# Altium schematic symbol library ICs_Converters.SchLib: 17 symbols
Pins are listed as number, name and electrical type; pins without a type are passive.

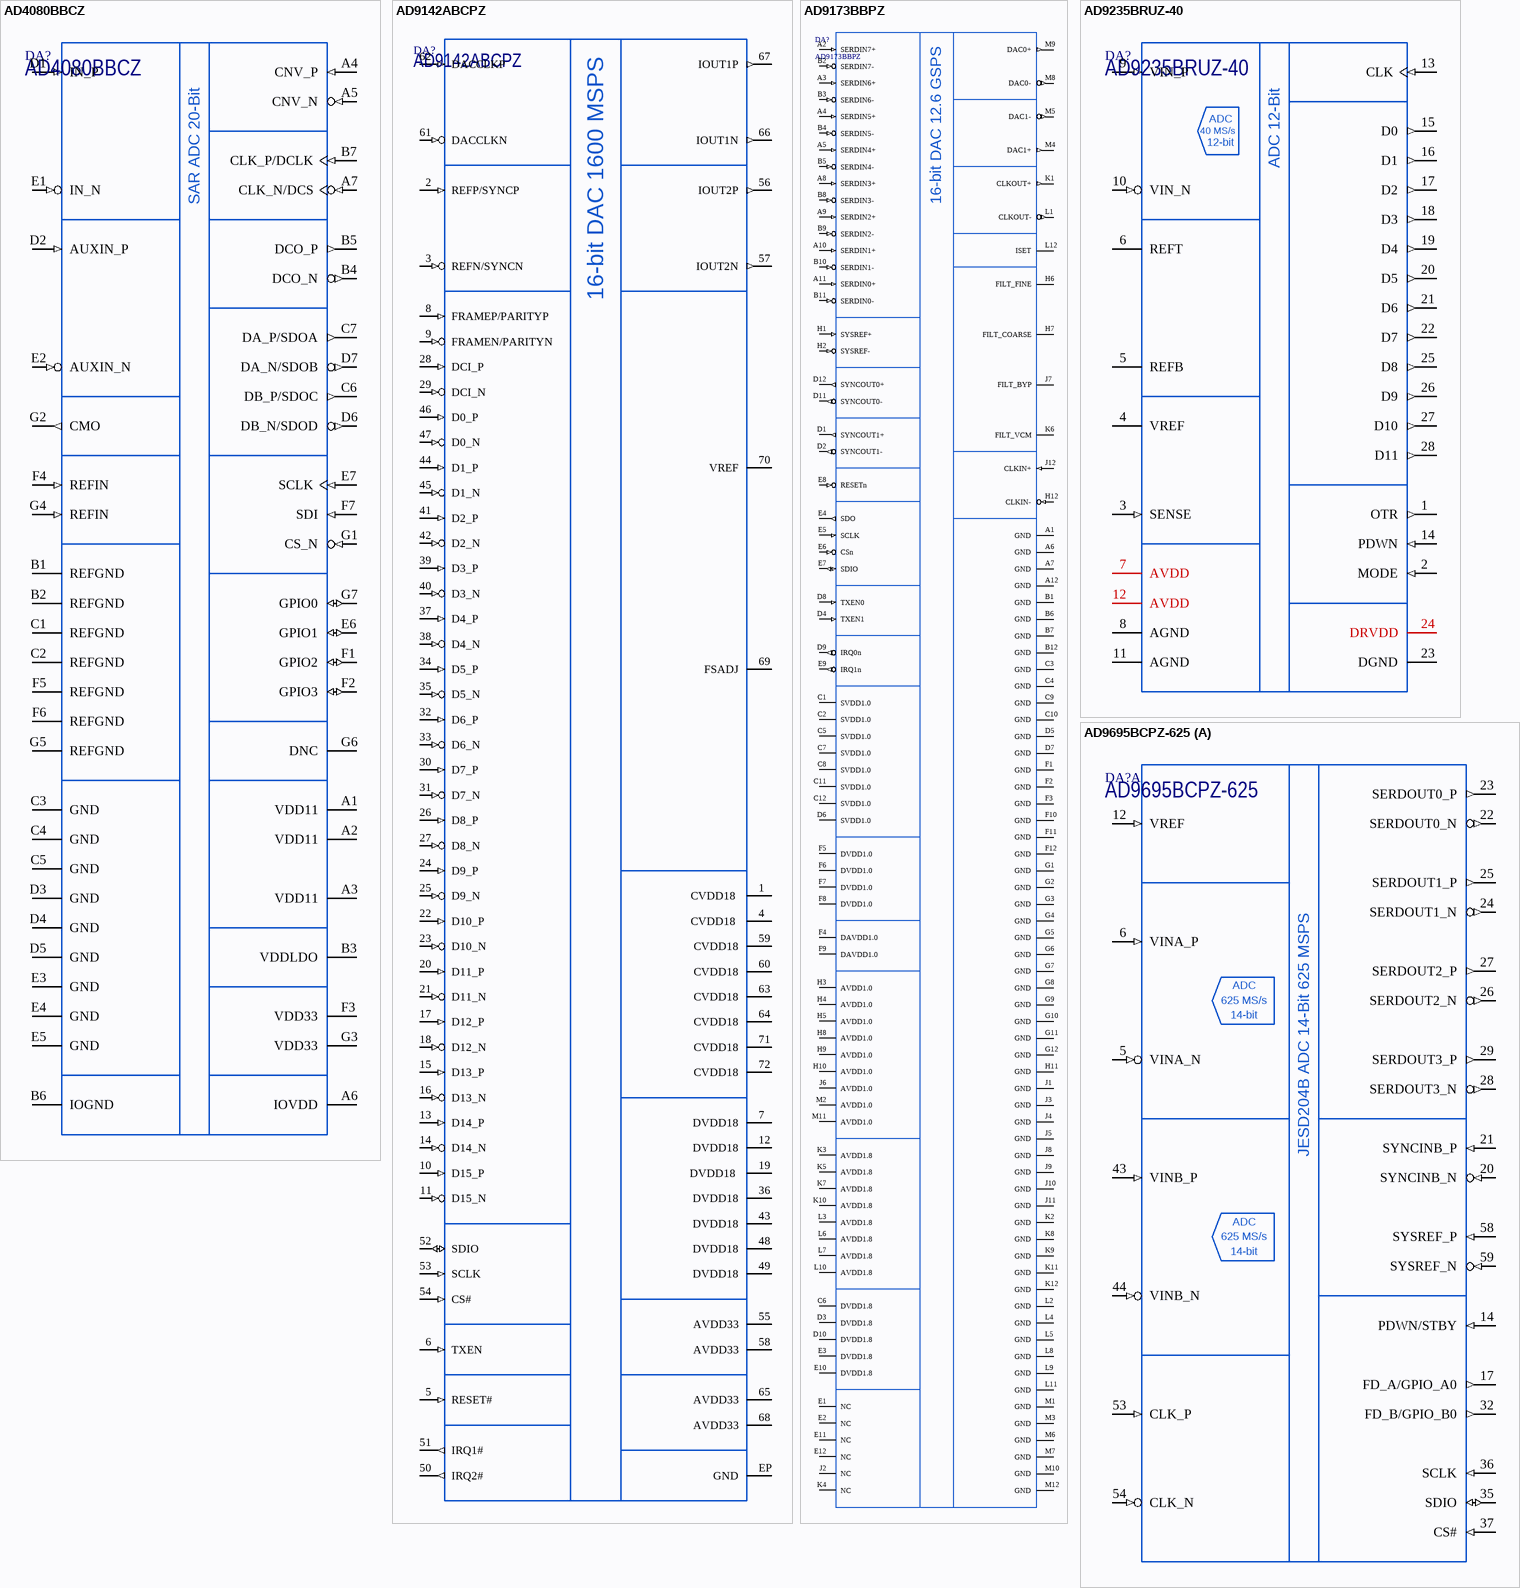
[diagram p0: symbols AD4080BBCZ to AD9695BCPZ-625]

## AD4080BBCZ
designator DA?
20-Bit, 40 MSPS, Differential SAR ADC; Manufacturer: Analog Devices; ItemType: IC; Package: BGA-49; PartNumber: AD4080BBCZ; ItemSubType: ADC; Mounting: SMD
footprint CSP_BGA49(BC-49-8) (BGA, 49-Leads, Body 5.00x5.00mmx1.38mm, Pitch 0.65mm)
pins: A1 VDD11 (power), A2 VDD11 (power), A3 VDD11 (power), A4 CNV_P (in), A5 CNV_N (in), A6 IOVDD (power), A7 CLK_N/DCS (in), B1 REFGND, B2 REFGND, B3 VDDLDO (power), B4 DCO_N (out), B5 DCO_P (out), B6 IOGND, B7 CLK_P/DCLK (in), C1 REFGND, C2 REFGND, C3 GND, C4 GND, C5 GND, C6 DB_P/SDOC (out), C7 DA_P/SDOA (out), D1 IN_P (in), D2 AUXIN_P (in), D3 GND, D4 GND, D5 GND, D6 DB_N/SDOD (out), D7 DA_N/SDOB (out), E1 IN_N (in), E2 AUXIN_N (in), E3 GND, E4 GND, E5 GND, E6 GPIO1 (io), E7 SCLK (in), F1 GPIO2 (io), F2 GPIO3 (io), F3 VDD33 (power), F4 REFIN (in), F5 REFGND, F6 REFGND, F7 SDI (in), G1 CS_N (in), G2 CMO (out), G3 VDD33 (power), G4 REFIN (in), G5 REFGND, G6 DNC (hiz), G7 GPIO0 (io)
text: SAR ADC 20-Bit

## AD9142ABCPZ
designator DA?
Dual, 16-Bit, 1600 MSPS, DAC; Manufacturer: Analog Devices; ItemType: IC; Package: LFCSP-72; PartNumber: AD9142ABCPZ; ItemSubType: DAC; Mounting: SMD
footprint LFCSP-72 (CP-72-7) (LFCSP, 72-Leads, Body 10x10mm, Pitch 0.50mm, Thermal Pad 5.30x5.30mm. Compliant to JEDEC standards MO-220-VNND-4)
pins: 1 CVDD18  (power), 2 REFP/SYNCP (in), 3 REFN/SYNCN  (in), 4 CVDD18  (power), 5 RESET# (in), 6 TXEN (in), 7 DVDD18 (power), 8 FRAMEP/PARITYP (in), 9 FRAMEN/PARITYN (in), 10 D15_P (in), 11 D15_N (in), 12 DVDD18 (power), 13 D14_P (in), 14 D14_N (in), 15 D13_P (in), 16 D13_N (in), 17 D12_P (in), 18 D12_N (in), 19 DVDD18  (power), 20 D11_P (in), 21 D11_N (in), 22 D10_P (in), 23 D10_N (in), 24 D9_P (in), 25 D9_N (in), 26 D8_P (in), 27 D8_N (in), 28 DCI_P (in), 29 DCI_N (in), 30 D7_P (in), 31 D7_N (in), 32 D6_P (in), 33 D6_N (in), 34 D5_P (in), 35 D5_N (in), 36 DVDD18 (power), 37 D4_P (in), 38 D4_N (in), 39 D3_P (in), 40 D3_N (in), 41 D2_P (in), 42 D2_N (in), 43 DVDD18 (power), 44 D1_P (in), 45 D1_N (in), 46 D0_P (in), 47 D0_N (in), 48 DVDD18 (power), 49 DVDD18 (power), 50 IRQ2# (out), 51 IRQ1# (out), 52 SDIO (io), 53 SCLK (in), 54 CS# (in), 55 AVDD33 (power), 56 IOUT2P (out), 57 IOUT2N (out), 58 AVDD33 (power), 59 CVDD18 (power), 60 CVDD18 (power), 61 DACCLKN (in), 62 DACCLKP (in), 63 CVDD18 (power), 64 CVDD18 (power), 65 AVDD33 (power), 66 IOUT1N (out), 67 IOUT1P (out), 68 AVDD33 (power), 69 FSADJ, 70 VREF, 71 CVDD18 (power), 72 CVDD18 (power), EP GND (power)
text: 16-bit DAC 1600 MSPS

## AD9173BBPZ
designator DA?
Dual 16-Bit 12.6 GSPS RF DAC with Channelizers; Manufacturer: Analog Devices; ItemType: IC; Package: BGA-144ED; PartNumber: AD9173BBPZ; ItemSubType: DAC; Mounting: SMD
footprint BGA144ED_AD9173 (BGA, 144-Leads, Body 10,00x10,00mmx1,71mm, Pitch 0,80mm (package option from Analog Devices BP-144-1))
pins: A1 GND (power), A2 SERDIN7+ (in), A3 SERDIN6+ (in), A4 SERDIN5+ (in), A5 SERDIN4+ (in), A6 GND (power), A7 GND (power), A8 SERDIN3+ (in), A9 SERDIN2+ (in), A10 SERDIN1+ (in), A11 SERDIN0+ (in), A12 GND (power), B1 GND (power), B2 SERDIN7- (in), B3 SERDIN6- (in), B4 SERDIN5- (in), B5 SERDIN4- (in), B6 GND (power), B7 GND (power), B8 SERDIN3- (in), B9 SERDIN2- (in), B10 SERDIN1- (in), B11 SERDIN0- (in), B12 GND (power), C1 SVDD1.0 (power), C2 SVDD1.0 (power), C3 GND (power), C4 GND (power), C5 SVDD1.0 (power), C6 DVDD1.8 (power), C7 SVDD1.0 (power), C8 SVDD1.0 (power), C9 GND (power), C10 GND (power), C11 SVDD1.0 (power), C12 SVDD1.0 (power), D1 SYNCOUT1+ (out), D2 SYNCOUT1- (out), D3 DVDD1.8 (power), D4 TXEN1 (in), D5 GND (power), D6 SVDD1.0 (power), D7 GND (power), D8 TXEN0 (in), D9 IRQ0n (out), D10 DVDD1.8 (power), D11 SYNCOUT0- (out), D12 SYNCOUT0+ (out), E1 NC (hiz), E2 NC (hiz), E3 DVDD1.8 (power), E4 SDO (out), E5 SCLK (in), E6 CSn (in), E7 SDIO (io), E8 RESETn (in), E9 IRQ1n (out), E10 DVDD1.8 (power), E11 NC (hiz), E12 NC (hiz), F1 GND (power), F2 GND (power), F3 GND (power), F4 DAVDD1.0 (power), F5 DVDD1.0 (power), F6 DVDD1.0 (power), F7 DVDD1.0 (power), F8 DVDD1.0 (power), F9 DAVDD1.0 (power), F10 GND (power), F11 GND (power), F12 GND (power), G1 GND (power), G2 GND (power), G3 GND (power), G4 GND (power), G5 GND (power), G6 GND (power), G7 GND (power), G8 GND (power), G9 GND (power), G10 GND (power), G11 GND (power), G12 GND (power), H1 SYSREF+ (in), H2 SYSREF- (in), H3 AVDD1.0 (power), H4 AVDD1.0 (power), H5 AVDD1.0 (power), H6 FILT_FINE, H7 FILT_COARSE, H8 AVDD1.0 (power), H9 AVDD1.0 (power), H10 AVDD1.0 (power), H11 GND (power), H12 CLKIN- (in), J1 GND (power), J2 NC (hiz), J3 GND (power), J4 GND (power), J5 GND (power), J6 AVDD1.0 (power), J7 FILT_BYP, J8 GND (power), J9 GND (power), J10 GND (power), J11 GND (power), J12 CLKIN+ (in), K1 CLKOUT+ (out), K2 GND (power), K3 AVDD1.8 (power), K4 NC (hiz), K5 AVDD1.8 (power), K6 FILT_VCM, K7 AVDD1.8 (power), K8 GND (power), K9 GND (power), K10 AVDD1.8 (power), K11 GND (power), K12 GND (power), L1 CLKOUT- (out), L2 GND (power), L3 AVDD1.8 (power), L4 GND (power), L5 GND (power), L6 AVDD1.8 (power), L7 AVDD1.8 (power), L8 GND (power), L9 GND (power), L10 AVDD1.8 (power), L11 GND (power), L12 ISET, M1 GND (power), M2 AVDD1.0 (power), M3 GND (power), M4 DAC1+ (out), M5 DAC1- (out), M6 GND (power), M7 GND (power), M8 DAC0- (out), M9 DAC0+ (out), M10 GND (power), M11 AVDD1.0 (power), M12 GND (power)
text: 16-bit DAC 12.6 GSPS

## AD9235BRUZ-40
designator DA?
12-Bit, 40 MSPS A/D Converter; Manufacturer: Analog Devices; ItemType: IC; ItemSubType: ADC; Alternative1: AD9235BRU-40; Package: TSSOP-28; PartNumber: AD9235BRUZ-40; AltManufacturer1: Analog Devices; Mounting: SMD
footprint TSSOP28_RU-28 (TSSOP, 28-Leads, Pitch 0.65mm. Analog Devices case style RU-28)
pins: 1 OTR (out), 2 MODE (in), 3 SENSE (in), 4 VREF, 5 REFB, 6 REFT, 7 AVDD (power), 8 AGND (power), 9 VIN_P (in), 10 VIN_N (in), 11 AGND (power), 12 AVDD (power), 13 CLK (in), 14 PDWN (in), 15 D0 (out), 16 D1 (out), 17 D2 (out), 18 D3 (out), 19 D4 (out), 20 D5 (out), 21 D6 (out), 22 D7 (out), 23 DGND (power), 24 DRVDD (power), 25 D8 (out), 26 D9 (out), 27 D10 (out), 28 D11 (out)
text: ADC 12-Bit; 40 MS/s; 12-bit

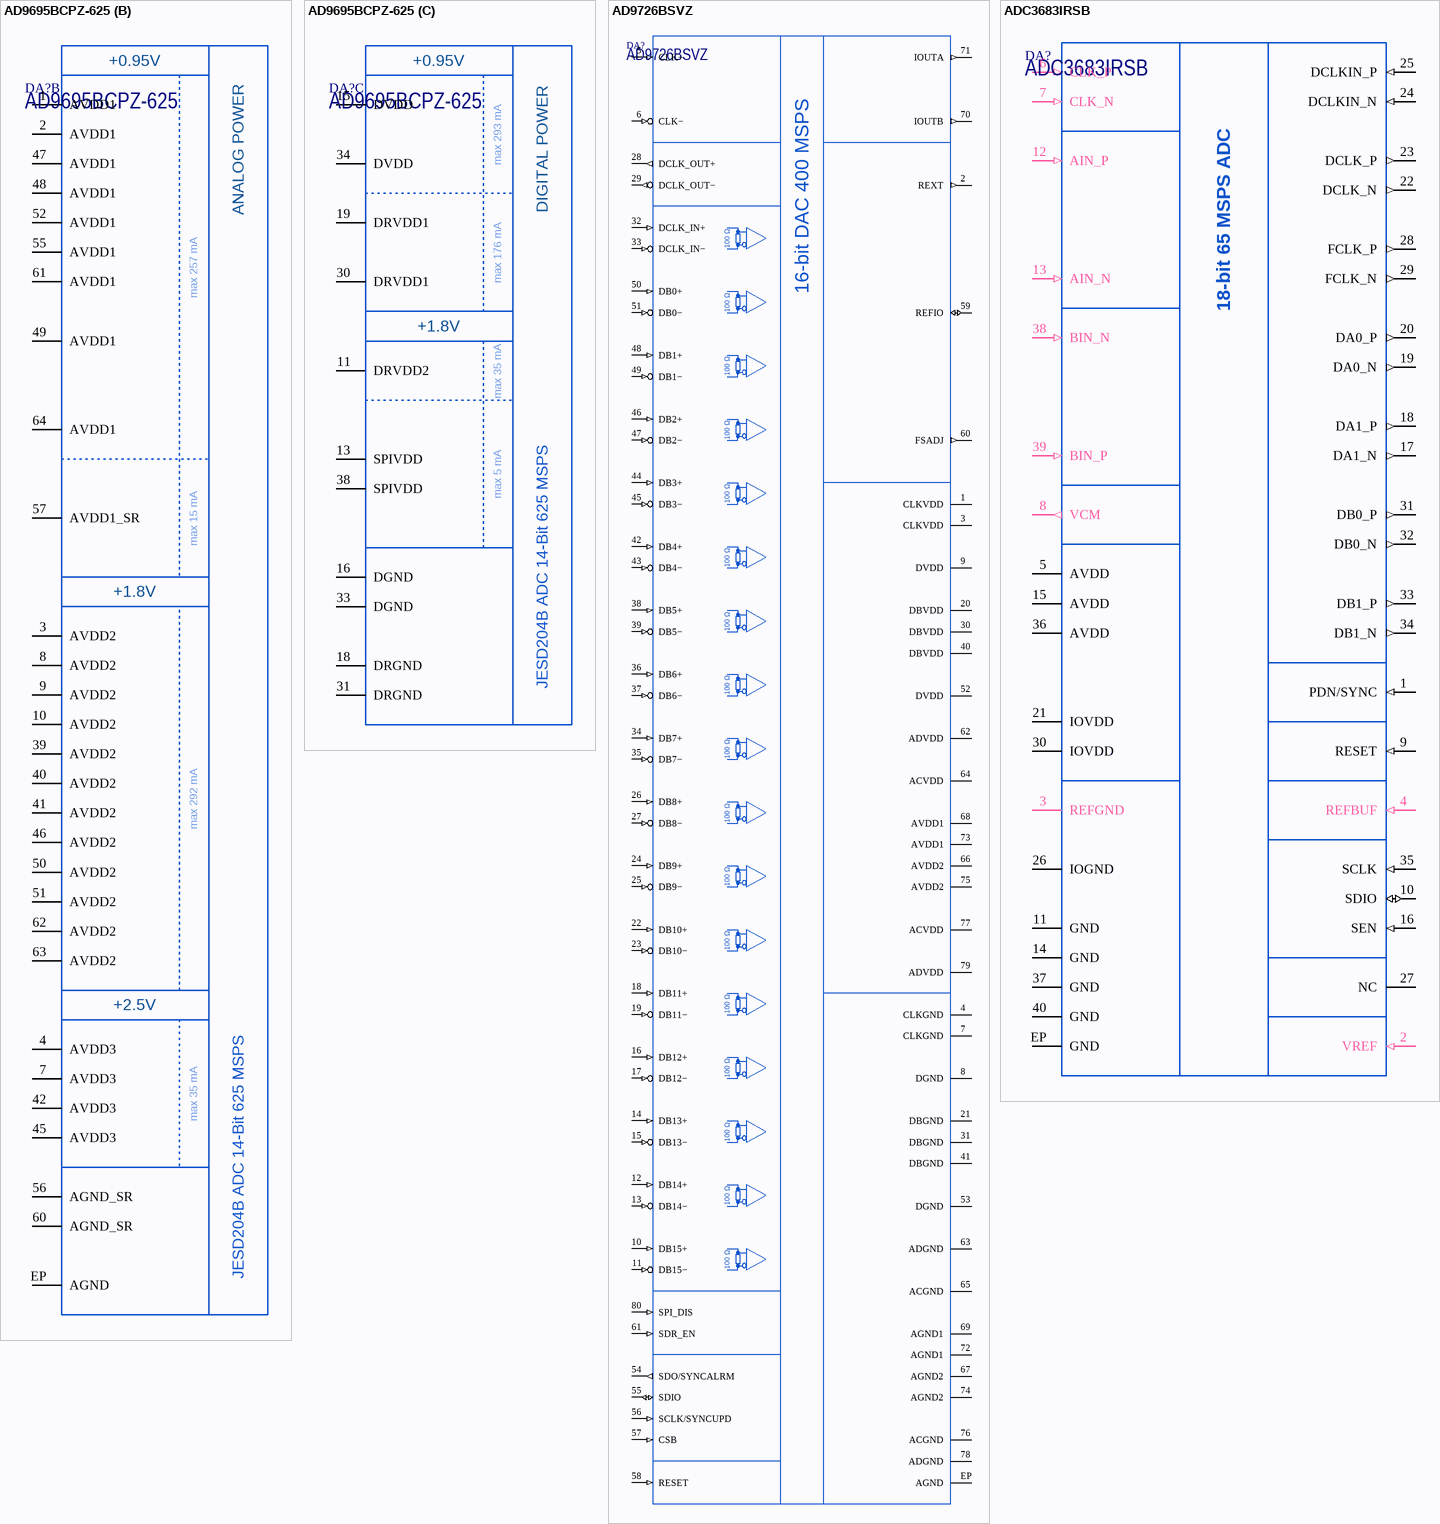
[diagram p1: symbols AD9695BCPZ-625 to ADC3683IRSB]

## AD9695BCPZ-625
designator DA?
2-Channel, 14-Bit, 1300 MSPS/625 MSPS, JESD204B ADC; Manufacturer: Analog Devices; ItemType: IC; Package: LFCSP-64; PartNumber: AD9695BCPZ-625; ItemSubType: ADC; Mounting: SMD
footprint LFCSP-64(CP-64-17) (QFN, 64-Leads, Body 9x9mm, Pitch 0.50mm, Thermal Pad 6.20x6.20mm)
part A pins: 5 VINA_N (in), 6 VINA_P (in), 12 VREF (in), 14 PDWN/STBY (in), 17 FD_A/GPIO_A0 (out), 20 SYNCINB_N (in), 21 SYNCINB_P (in), 22 SERDOUT0_N (out), 23 SERDOUT0_P (out), 24 SERDOUT1_N (out), 25 SERDOUT1_P (out), 26 SERDOUT2_N (out), 27 SERDOUT2_P (out), 28 SERDOUT3_N (out), 29 SERDOUT3_P (out), 32 FD_B/GPIO_B0 (out), 35 SDIO (io), 36 SCLK (in), 37 CS# (in), 43 VINB_P (in), 44 VINB_N (in), 53 CLK_P (in), 54 CLK_N (in), 58 SYSREF_P (in), 59 SYSREF_N (in)
part B pins: 1 AVDD1 (power), 2 AVDD1 (power), 3 AVDD2 (power), 4 AVDD3 (power), 7 AVDD3 (power), 8 AVDD2 (power), 9 AVDD2 (power), 10 AVDD2 (power), 39 AVDD2 (power), 40 AVDD2 (power), 41 AVDD2 (power), 42 AVDD3 (power), 45 AVDD3 (power), 46 AVDD2 (power), 47 AVDD1 (power), 48 AVDD1 (power), 49 AVDD1 (power), 50 AVDD2 (power), 51 AVDD2 (power), 52 AVDD1 (power), 55 AVDD1 (power), 56 AGND_SR, 57 AVDD1_SR, 60 AGND_SR, 61 AVDD1 (power), 62 AVDD2 (power), 63 AVDD2 (power), 64 AVDD1 (power), EP AGND
part C pins: 11 DRVDD2 (power), 13 SPIVDD (power), 15 DVDD (power), 16 DGND, 18 DRGND, 19 DRVDD1 (power), 30 DRVDD1 (power), 31 DRGND, 33 DGND, 34 DVDD (power), 38 SPIVDD (power)
part A text: JESD204B ADC 14-Bit 625 MSPS; 625 MS/s; 14-bit
part B text: +0.95V; ANALOG POWER; max 257 mA; max 15 mA; +1.8V; max 292 mA; +2.5V; JESD204B ADC 14-Bit 625 MSPS; max 35 mA
part C text: +0.95V; max 293 mA; DIGITAL POWER; max 176 mA; +1.8V; max 35 mA; JESD204B ADC 14-Bit 625 MSPS; max 5 mA

## AD9726BSVZ
designator DA?
16-Bit, 400 MSPS, DAC; Manufacturer: Analog Devices; ItemType: IC; Package: TQFP-80_EP; PartNumber: AD9726BSVZ; ItemSubType: DAC; Mounting: SMD
footprint TQFP80_SV-80-1 (Analog Devices case style SV-80, compatible JEDEC MS-026-ADD-HD, 80-Leads, Body 12,00x12,00mm, Pitch 0,50mm)
pins: 1 CLKVDD (power), 2 REXT (out), 3 CLKVDD (power), 4 CLKGND, 5 CLK+ (in), 6 CLK−  (in), 7 CLKGND, 8 DGND, 9 DVDD (power), 10 DB15+ (in), 11 DB15− (in), 12 DB14+ (in), 13 DB14− (in), 14 DB13+ (in), 15 DB13− (in), 16 DB12+ (in), 17 DB12− (in), 18 DB11+ (in), 19 DB11− (in), 20 DBVDD (power), 21 DBGND, 22 DB10+ (in), 23 DB10− (in), 24 DB9+ (in), 25 DB9− (in), 26 DB8+ (in), 27 DB8− (in), 28 DCLK_OUT+ (out), 29 DCLK_OUT− (out), 30 DBVDD (power), 31 DBGND, 32 DCLK_IN+ (in), 33 DCLK_IN− (in), 34 DB7+ (in), 35 DB7− (in), 36 DB6+ (in), 37 DB6− (in), 38 DB5+ (in), 39 DB5− (in), 40 DBVDD (power), 41 DBGND, 42 DB4+ (in), 43 DB4− (in), 44 DB3+ (in), 45 DB3− (in), 46 DB2+ (in), 47 DB2− (in), 48 DB1+ (in), 49 DB1− (in), 50 DB0+ (in), 51 DB0− (in), 52 DVDD (power), 53 DGND, 54 SDO/SYNCALRM (out), 55 SDIO (io), 56 SCLK/SYNCUPD (in), 57 CSB (in), 58 RESET (in), 59 REFIO (io), 60 FSADJ (out), 61 SDR_EN (in), 62 ADVDD (power), 63 ADGND, 64 ACVDD (power), 65 ACGND, 66 AVDD2 (power), 67 AGND2, 68 AVDD1 (power), 69 AGND1, 70 IOUTB (out), 71 IOUTA (out), 72 AGND1, 73 AVDD1 (power), 74 AGND2, 75 AVDD2 (power), 76 ACGND, 77 ACVDD (power), 78 ADGND, 79 ADVDD (power), 80 SPI_DIS  (in), EP AGND
text: 16-bit DAC 400 MSPS; 100 Ω

## ADC3683IRSB
designator DA?
18-Bit, 65MSPS ADC; Manufacturer: Texas Instruments; Marking: AZ3683; ItemType: IC; Package: QFN-40; PartNumber: ADC3683IRSB; ItemSubType: ADC; Mounting: SMD
footprint QFN40_RSB0040F (QFN, 40-Leads, Body 5x5mm, Pitch 0.40mm, Thermal Pad 3.70x3.70mm.)
pins: 1 PDN/SYNC (in), 2 VREF (in), 3 REFGND, 4 REFBUF (in), 5 AVDD (power), 6 CLK_P (in), 7 CLK_N (in), 8 VCM (out), 9 RESET (in), 10 SDIO (io), 11 GND, 12 AIN_P (in), 13 AIN_N (in), 14 GND, 15 AVDD (power), 16 SEN (in), 17 DA1_N (out), 18 DA1_P (out), 19 DA0_N (out), 20 DA0_P (out), 21 IOVDD (power), 22 DCLK_N (out), 23 DCLK_P (out), 24 DCLKIN_N (in), 25 DCLKIN_P (in), 26 IOGND, 27 NC, 28 FCLK_P (out), 29 FCLK_N (out), 30 IOVDD (power), 31 DB0_P (out), 32 DB0_N (out), 33 DB1_P (out), 34 DB1_N (out), 35 SCLK (in), 36 AVDD (power), 37 GND, 38 BIN_N (in), 39 BIN_P (in), 40 GND, EP GND
text: 18-bit 65 MSPS ADC

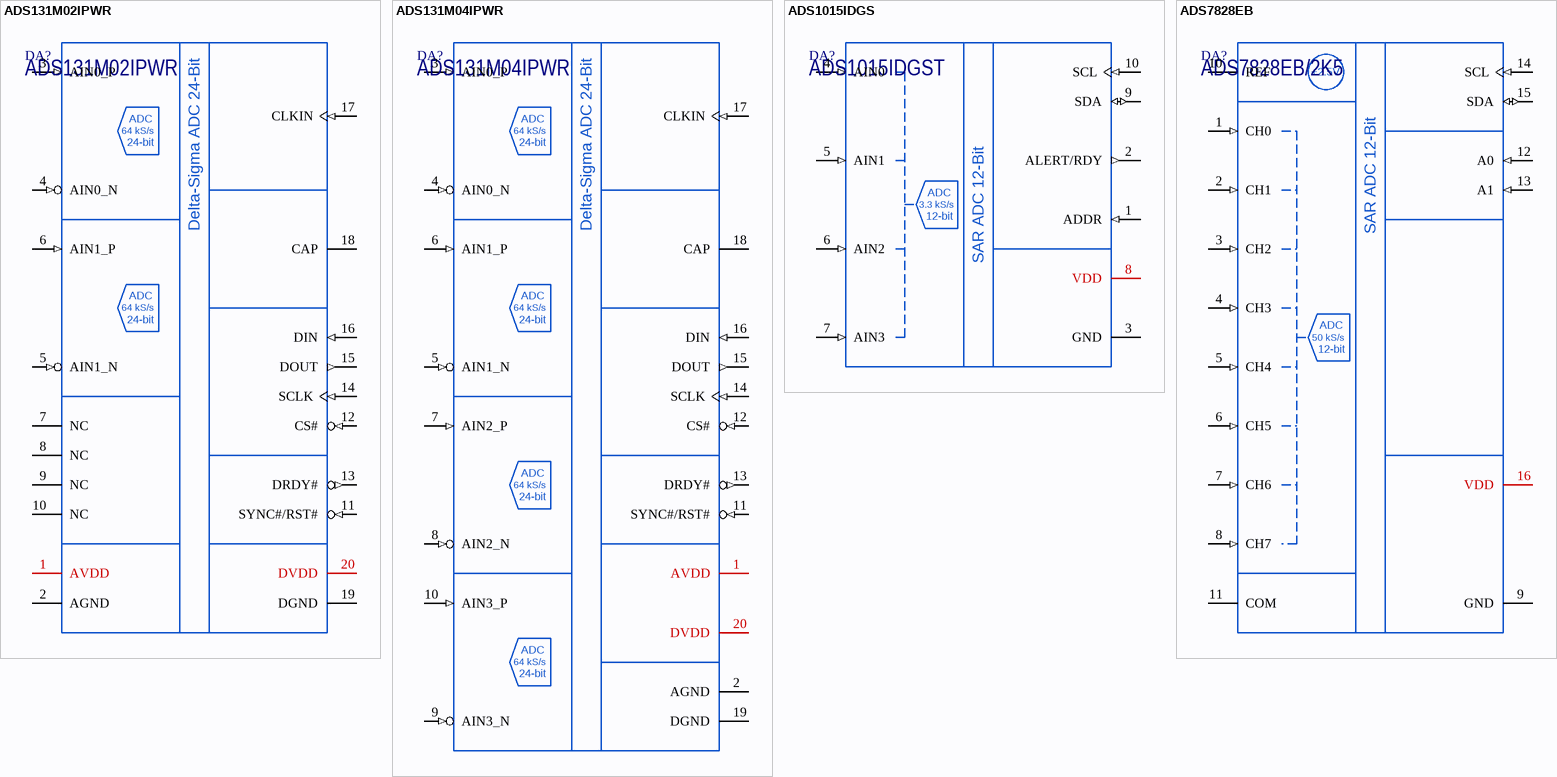
[diagram p2: symbols ADS131M02IPWR to ADS7828EB]

## ADS131M02IPWR
designator DA?
2-Channel, Simultaneously-Sampling, 24-Bit, Delta-Sigma ADC; Manufacturer: Texas Instruments; Marking: A131M02; ItemType: IC; Package: TSSOP-20; PartNumber: ADS131M02IPWR; ItemSubType: ADC; Mounting: SMD
footprint TSSOP20_ADS131 (TSOP, 20-Leads, Body 6.50x4.40mm, Pitch 0.65mm)
pins: 1 AVDD (power), 2 AGND (power), 3 AIN0_P (in), 4 AIN0_N (in), 5 AIN1_N (in), 6 AIN1_P (in), 7 NC (hiz), 8 NC (hiz), 9 NC (hiz), 10 NC (hiz), 11 SYNC#/RST# (in), 12 CS# (in), 13 DRDY# (out), 14 SCLK (in), 15 DOUT (out), 16 DIN (in), 17 CLKIN (in), 18 CAP, 19 DGND (power), 20 DVDD (power)
text: Delta-Sigma ADC 24-Bit; 64 kS/s; 24-bit

## ADS131M04IPWR
designator DA?
4-Channel, Simultaneously-Sampling, 24-Bit, Delta-Sigma ADC; Manufacturer: Texas Instruments; Marking: A131M04; ItemType: IC; Package: TSSOP-20; PartNumber: ADS131M04IPWR; ItemSubType: ADC; Mounting: SMD
footprint TSSOP20_ADS131 (TSOP, 20-Leads, Body 6.50x4.40mm, Pitch 0.65mm)
pins: 1 AVDD (power), 2 AGND (power), 3 AIN0_P (in), 4 AIN0_N (in), 5 AIN1_N (in), 6 AIN1_P (in), 7 AIN2_P (in), 8 AIN2_N (in), 9 AIN3_N (in), 10 AIN3_P (in), 11 SYNC#/RST# (in), 12 CS# (in), 13 DRDY# (out), 14 SCLK (in), 15 DOUT (out), 16 DIN (in), 17 CLKIN (in), 18 CAP, 19 DGND (power), 20 DVDD (power)
text: Delta-Sigma ADC 24-Bit; 64 kS/s; 24-bit

## ADS1015IDGS
designator DA?, comment ADS1015IDGST
12-Bit, 4-Channel ADC with I2C interface; Manufacturer: Texas Instruments; Marking: BRPI; ItemType: IC; Alternative1: ADS1015IDGSR; Package: VSSOP-10; PartNumber: ADS1015IDGST; ItemSubType: ADC; AltManufacturer1: Texas Instruments; Mounting: SMD
footprint VSSOP10_DGS0010A (VSSOP, 10-Leads, Body 3.00x3.00mm, Pitch 0.5mm, TI case DGS0010A)
pins: 1 ADDR (in), 2 ALERT/RDY (out), 3 GND (power), 4 AIN0 (in), 5 AIN1 (in), 6 AIN2 (in), 7 AIN3 (in), 8 VDD (power), 9 SDA (io), 10 SCL (in)
text: SAR ADC 12-Bit; 3.3 kS/s; 12-bit

## ADS7828EB
designator DA?, comment ADS7828EB/2K5
12-Bit, 8-Channel Sampling ADC with I2C interface; Manufacturer: Texas Instruments; Marking: 7828E; ItemType: IC; Alternative1: ADS7828EB/250; Package: TSSOP-16; PartNumber: ADS7828EB/2K5; ItemSubType: ADC; AltManufacturer1: Texas Instruments; Mounting: SMD
footprint TSSOP16_PW0016A (TSSOP, 16-Leads, Body 5.0x4.40mm, Pitch 0.65mm TI case style PW0016A)
pins: 1 CH0 (in), 2 CH1 (in), 3 CH2 (in), 4 CH3 (in), 5 CH4 (in), 6 CH5 (in), 7 CH6 (in), 8 CH7 (in), 9 GND (power), 10 REF, 11 COM, 12 A0 (in), 13 A1 (in), 14 SCL (in), 15 SDA (io), 16 VDD (power)
text: +2.5V; SAR ADC 12-Bit; 50 kS/s; 12-bit

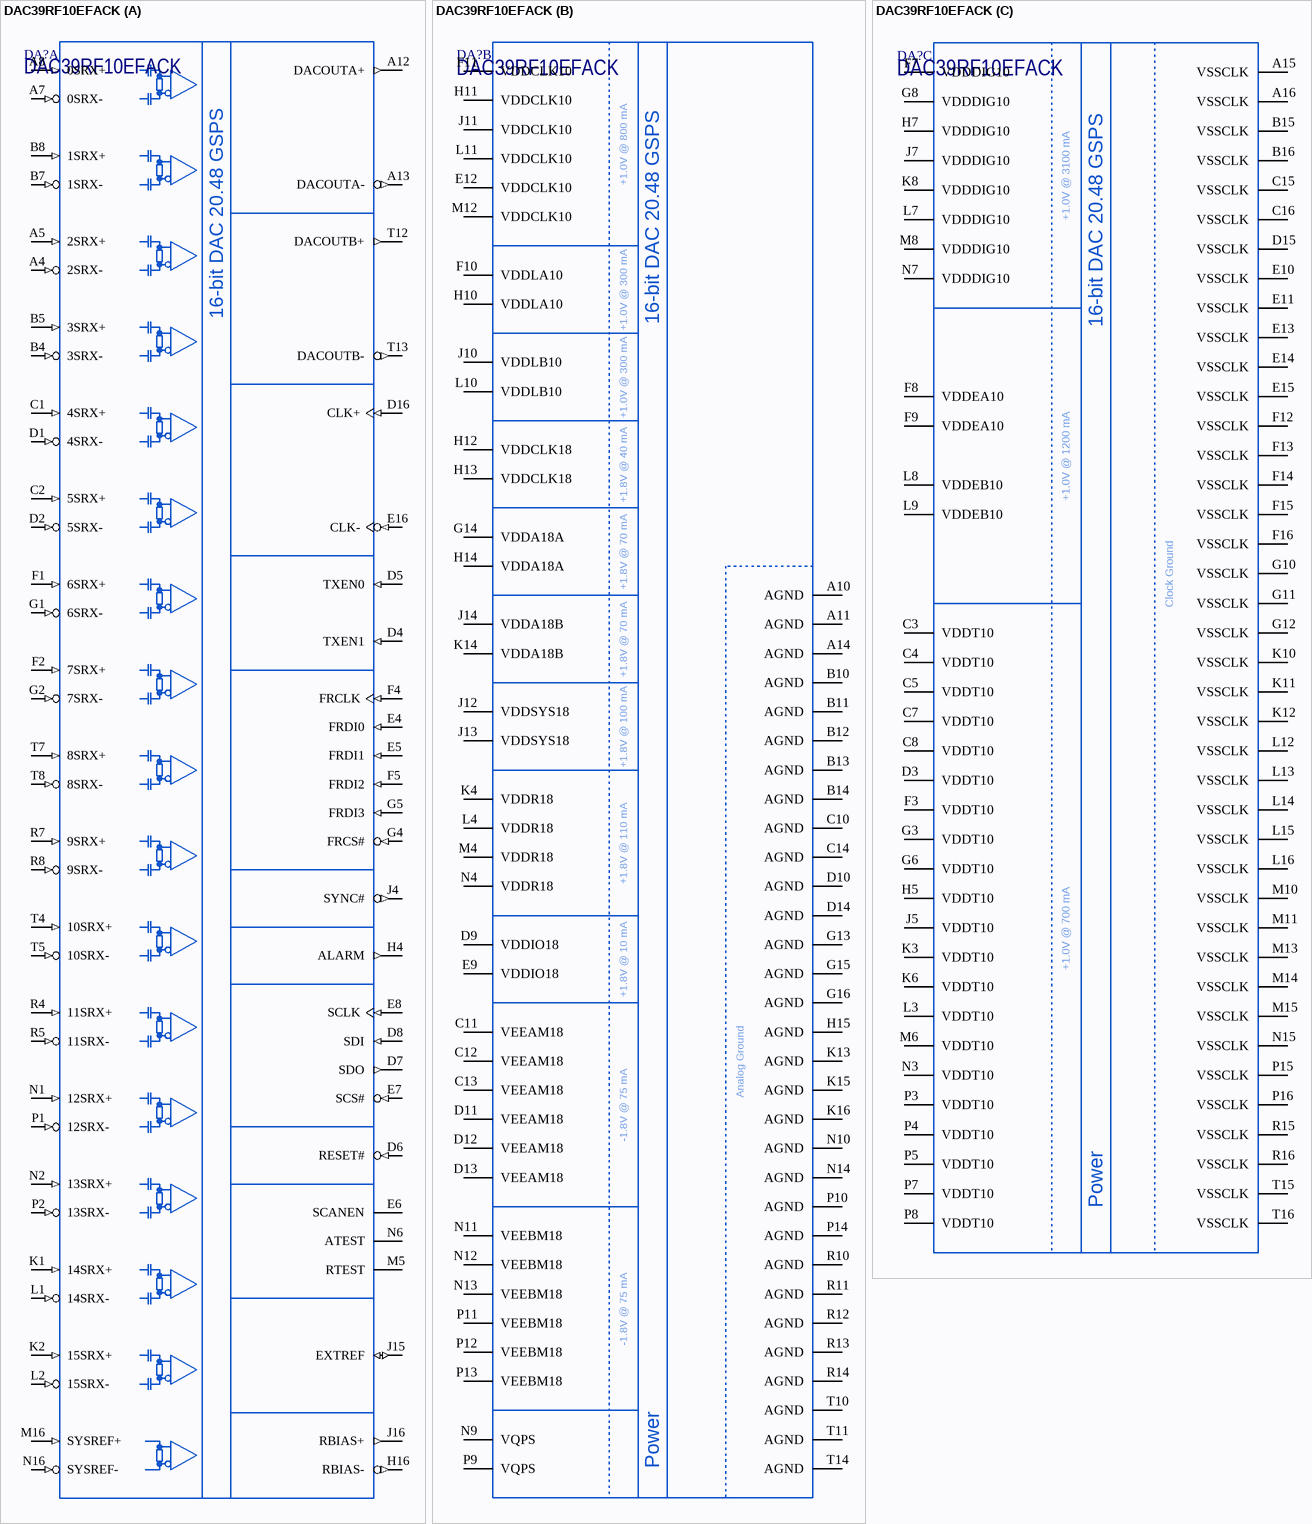
[diagram p3: symbol DAC39RF10EFACK]

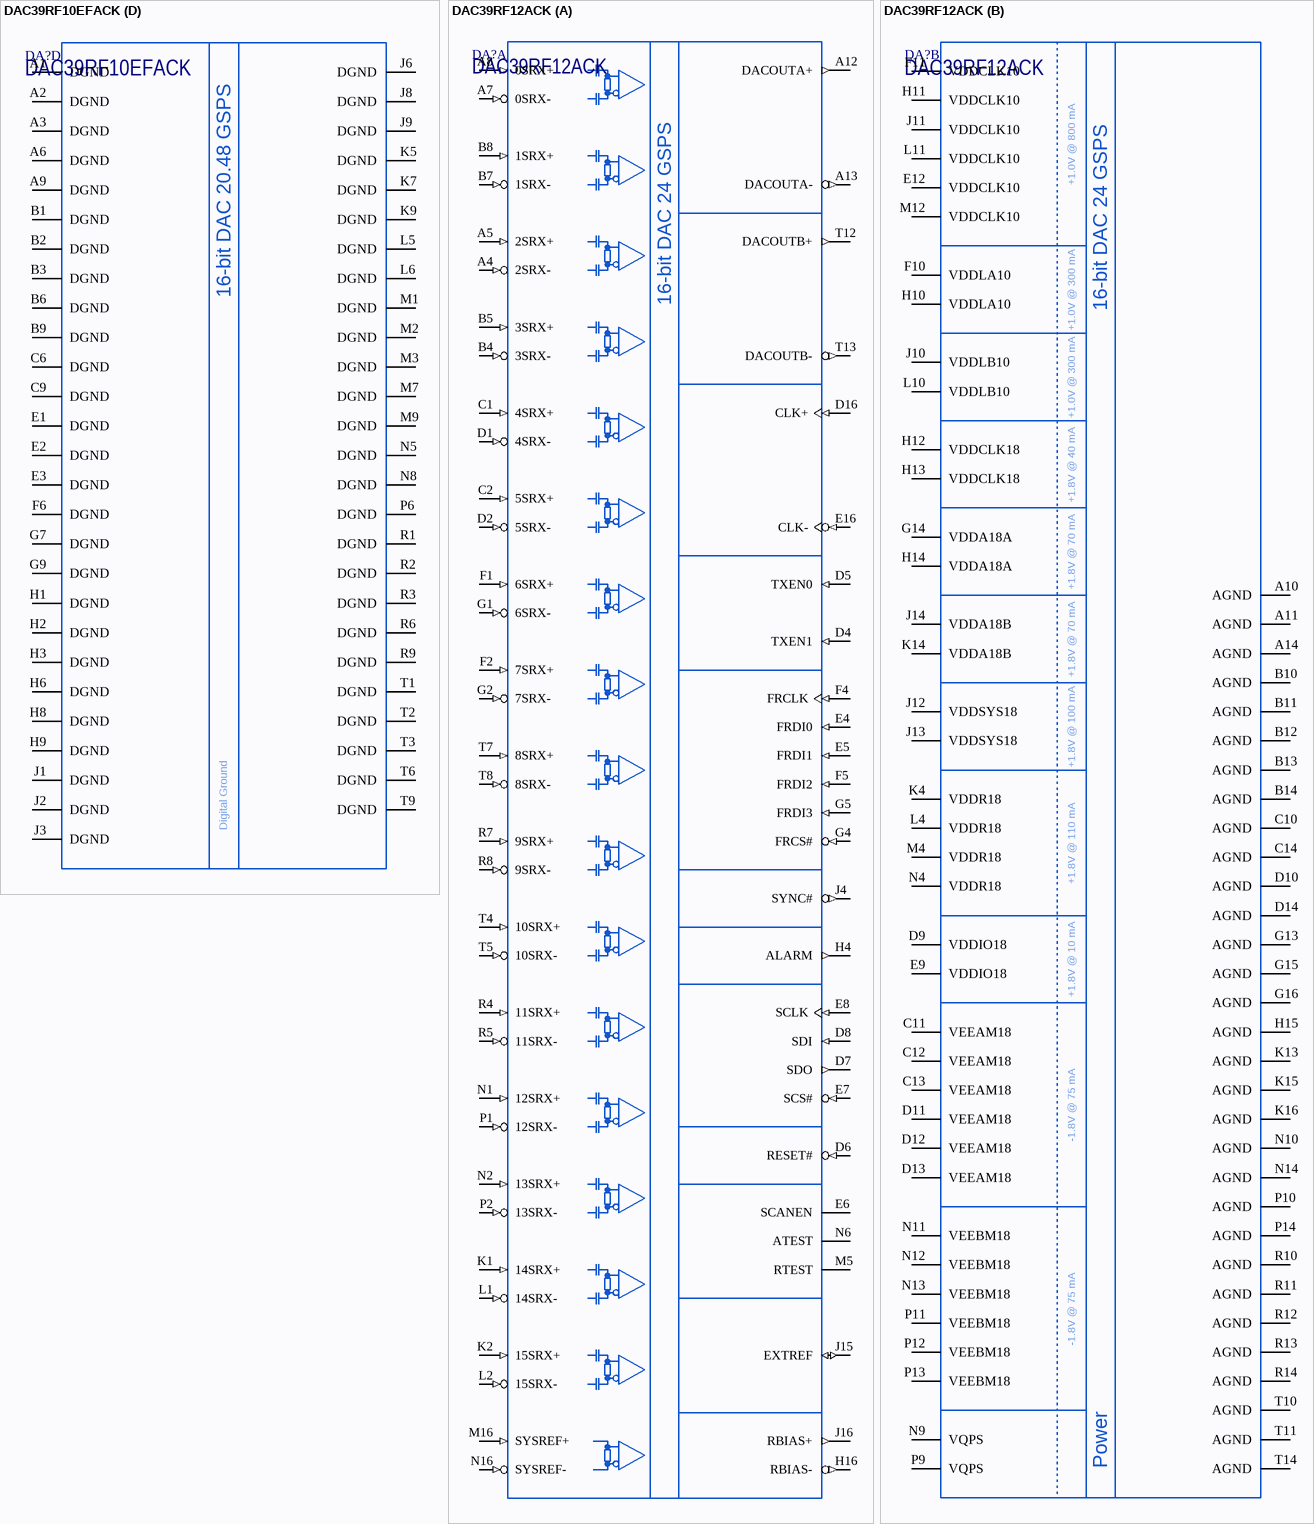
[diagram p4: symbols DAC39RF10EFACK to DAC39RF12ACK]

## DAC39RF10EFACK
designator DA?
MultiNyquist Digital-to-Analog Converter (DAC) with JESD204B,C Interface; Manufacturer: Texas Instruments; ItemType: IC; Package: FCBGA-256; Marking: DAC39RF10E; PartNumber: DAC39RF10EFACK; ItemSubType: DAC; Mounting: SMD
footprint FCBGA256_ACK0256A (BGA, 256-Leads, Body 17.00x17.00mmx2.78mm, Pitch 1.00mm)
part A pins: A4 2SRX- (in), A5 2SRX+ (in), A7 0SRX- (in), A8 0SRX+ (in), A12 DACOUTA+ (out), A13 DACOUTA- (out), B4 3SRX- (in), B5 3SRX+ (in), B7 1SRX- (in), B8 1SRX+ (in), C1 4SRX+ (in), C2 5SRX+ (in), D1 4SRX- (in), D2 5SRX- (in), D4 TXEN1 (in), D5 TXEN0 (in), D6 RESET# (in), D7 SDO (out), D8 SDI (in), D16 CLK+ (in), E4 FRDI0 (in), E5 FRDI1 (in), E6 SCANEN, E7 SCS# (in), E8 SCLK (in), E16 CLK- (in), F1 6SRX+ (in), F2 7SRX+ (in), F4 FRCLK (in), F5 FRDI2 (in), G1 6SRX- (in), G2 7SRX- (in), G4 FRCS# (in), G5 FRDI3 (in), H4 ALARM (out), H16 RBIAS- (out), J4 SYNC# (out), J15 EXTREF (io), J16 RBIAS+ (out), K1 14SRX+ (in), K2 15SRX+ (in), L1 14SRX- (in), L2 15SRX- (in), M5 RTEST, M16 SYSREF+ (in), N1 12SRX+ (in), N2 13SRX+ (in), N6 ATEST, N16 SYSREF- (in), P1 12SRX- (in), P2 13SRX- (in), R4 11SRX+ (in), R5 11SRX- (in), R7 9SRX+ (in), R8 9SRX- (in), T4 10SRX+ (in), T5 10SRX- (in), T7 8SRX+ (in), T8 8SRX- (in), T12 DACOUTB+ (out), T13 DACOUTB- (out)
part B pins: A10 AGND, A11 AGND, A14 AGND, B10 AGND, B11 AGND, B12 AGND, B13 AGND, B14 AGND, C10 AGND, C11 VEEAM18 (power), C12 VEEAM18 (power), C13 VEEAM18 (power), C14 AGND, D9 VDDIO18 (power), D10 AGND, D11 VEEAM18 (power), D12 VEEAM18 (power), D13 VEEAM18 (power), D14 AGND, E9 VDDIO18 (power), E12 VDDCLK10 (power), F10 VDDLA10 (power), F11 VDDCLK10 (power), G13 AGND, G14 VDDA18A (power), G15 AGND, G16 AGND, H10 VDDLA10 (power), H11 VDDCLK10 (power), H12 VDDCLK18 (power), H13 VDDCLK18 (power), H14 VDDA18A (power), H15 AGND, J10 VDDLB10 (power), J11 VDDCLK10 (power), J12 VDDSYS18 (power), J13 VDDSYS18 (power), J14 VDDA18B (power), K4 VDDR18 (power), K13 AGND, K14 VDDA18B (power), K15 AGND, K16 AGND, L4 VDDR18 (power), L10 VDDLB10 (power), L11 VDDCLK10 (power), M4 VDDR18 (power), M12 VDDCLK10 (power), N4 VDDR18 (power), N9 VQPS, N10 AGND, N11 VEEBM18 (power), N12 VEEBM18 (power), N13 VEEBM18 (power), N14 AGND, P9 VQPS, P10 AGND, P11 VEEBM18 (power), P12 VEEBM18 (power), P13 VEEBM18 (power), P14 AGND, R10 AGND, R11 AGND, R12 AGND, R13 AGND, R14 AGND, T10 AGND, T11 AGND, T14 AGND
part C pins: A15 VSSCLK, A16 VSSCLK, B15 VSSCLK, B16 VSSCLK, C3 VDDT10 (power), C4 VDDT10 (power), C5 VDDT10 (power), C7 VDDT10 (power), C8 VDDT10 (power), C15 VSSCLK, C16 VSSCLK, D3 VDDT10 (power), D15 VSSCLK, E10 VSSCLK, E11 VSSCLK, E13 VSSCLK, E14 VSSCLK, E15 VSSCLK, F3 VDDT10 (power), F7 VDDDIG10 (power), F8 VDDEA10 (power), F9 VDDEA10 (power), F12 VSSCLK, F13 VSSCLK, F14 VSSCLK, F15 VSSCLK, F16 VSSCLK, G3 VDDT10 (power), G6 VDDT10 (power), G8 VDDDIG10 (power), G10 VSSCLK, G11 VSSCLK, G12 VSSCLK, H5 VDDT10 (power), H7 VDDDIG10 (power), J5 VDDT10 (power), J7 VDDDIG10 (power), K3 VDDT10 (power), K6 VDDT10 (power), K8 VDDDIG10 (power), K10 VSSCLK, K11 VSSCLK, K12 VSSCLK, L3 VDDT10 (power), L7 VDDDIG10 (power), L8 VDDEB10 (power), L9 VDDEB10 (power), L12 VSSCLK, L13 VSSCLK, L14 VSSCLK, L15 VSSCLK, L16 VSSCLK, M6 VDDT10 (power), M8 VDDDIG10 (power), M10 VSSCLK, M11 VSSCLK, M13 VSSCLK, M14 VSSCLK, M15 VSSCLK, N3 VDDT10 (power), N7 VDDDIG10 (power), N15 VSSCLK, P3 VDDT10 (power), P4 VDDT10 (power), P5 VDDT10 (power), P7 VDDT10 (power), P8 VDDT10 (power), P15 VSSCLK, P16 VSSCLK, R15 VSSCLK, R16 VSSCLK, T15 VSSCLK, T16 VSSCLK
part D pins: A1 DGND, A2 DGND, A3 DGND, A6 DGND, A9 DGND, B1 DGND, B2 DGND, B3 DGND, B6 DGND, B9 DGND, C6 DGND, C9 DGND, E1 DGND, E2 DGND, E3 DGND, F6 DGND, G7 DGND, G9 DGND, H1 DGND, H2 DGND, H3 DGND, H6 DGND, H8 DGND, H9 DGND, J1 DGND, J2 DGND, J3 DGND, J6 DGND, J8 DGND, J9 DGND, K5 DGND, K7 DGND, K9 DGND, L5 DGND, L6 DGND, M1 DGND, M2 DGND, M3 DGND, M7 DGND, M9 DGND, N5 DGND, N8 DGND, P6 DGND, R1 DGND, R2 DGND, R3 DGND, R6 DGND, R9 DGND, T1 DGND, T2 DGND, T3 DGND, T6 DGND, T9 DGND
part A text: 16-bit DAC 20.48 GSPS
part B text: +1.0V @ 800 mA; 16-bit DAC 20.48 GSPS; +1.0V @ 300 mA; +1.8V @ 40 mA; +1.8V @ 70 mA; +1.8V @ 100 mA; +1.8V @ 110 mA; +1.8V @ 10 mA; Analog Ground; -1.8V @ 75 mA; Power
part C text: +1.0V @ 3100 mA; 16-bit DAC 20.48 GSPS; +1.0V @ 1200 mA; Clock Ground; +1.0V @ 700 mA; Power
part D text: 16-bit DAC 20.48 GSPS; Digital Ground

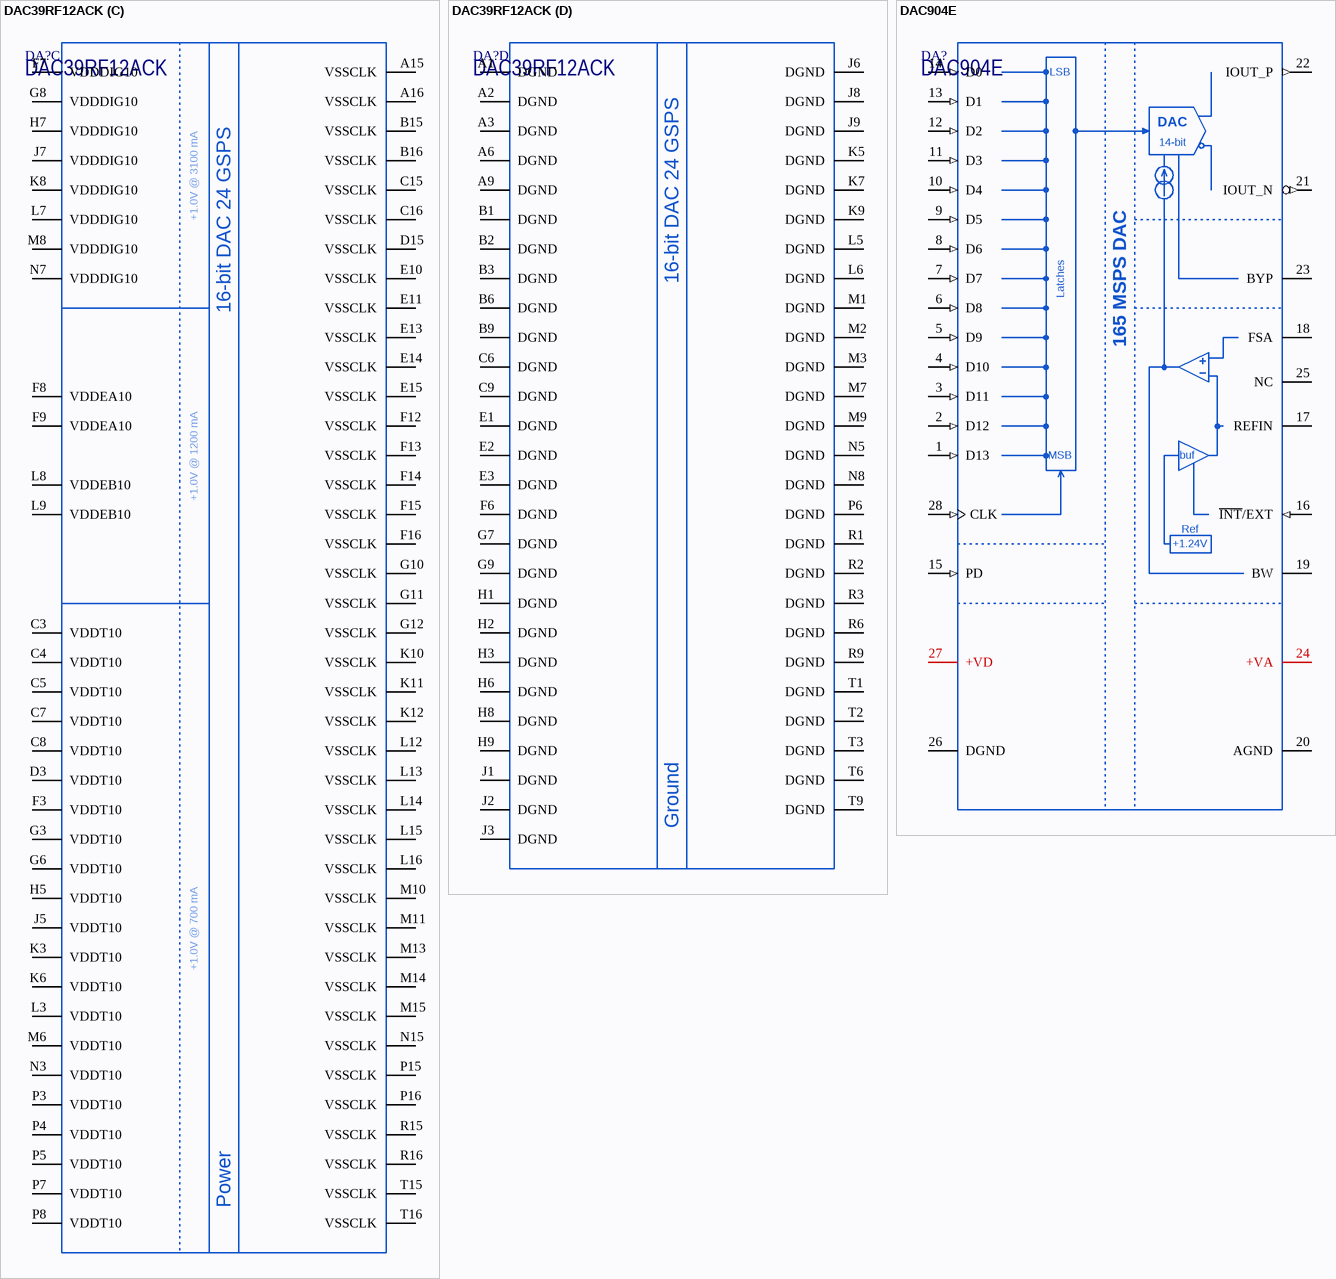
[diagram p5: symbols DAC39RF12ACK to DAC904E]

## DAC39RF12ACK
designator DA?
12, 24-GSPS, 16-bit, Dual Channel DAC with JESD204B,C Interface; Manufacturer: Texas Instruments; ItemType: IC; Package: FCBGA-256; Marking: DAC39RF12; PartNumber: DAC39RF12ACK; ItemSubType: DAC; Mounting: SMD
footprint FCBGA256_ACK0256A (BGA, 256-Leads, Body 17.00x17.00mmx2.78mm, Pitch 1.00mm)
part A pins: A4 2SRX- (in), A5 2SRX+ (in), A7 0SRX- (in), A8 0SRX+ (in), A12 DACOUTA+ (out), A13 DACOUTA- (out), B4 3SRX- (in), B5 3SRX+ (in), B7 1SRX- (in), B8 1SRX+ (in), C1 4SRX+ (in), C2 5SRX+ (in), D1 4SRX- (in), D2 5SRX- (in), D4 TXEN1 (in), D5 TXEN0 (in), D6 RESET# (in), D7 SDO (out), D8 SDI (in), D16 CLK+ (in), E4 FRDI0 (in), E5 FRDI1 (in), E6 SCANEN, E7 SCS# (in), E8 SCLK (in), E16 CLK- (in), F1 6SRX+ (in), F2 7SRX+ (in), F4 FRCLK (in), F5 FRDI2 (in), G1 6SRX- (in), G2 7SRX- (in), G4 FRCS# (in), G5 FRDI3 (in), H4 ALARM (out), H16 RBIAS- (out), J4 SYNC# (out), J15 EXTREF (io), J16 RBIAS+ (out), K1 14SRX+ (in), K2 15SRX+ (in), L1 14SRX- (in), L2 15SRX- (in), M5 RTEST, M16 SYSREF+ (in), N1 12SRX+ (in), N2 13SRX+ (in), N6 ATEST, N16 SYSREF- (in), P1 12SRX- (in), P2 13SRX- (in), R4 11SRX+ (in), R5 11SRX- (in), R7 9SRX+ (in), R8 9SRX- (in), T4 10SRX+ (in), T5 10SRX- (in), T7 8SRX+ (in), T8 8SRX- (in), T12 DACOUTB+ (out), T13 DACOUTB- (out)
part B pins: A10 AGND, A11 AGND, A14 AGND, B10 AGND, B11 AGND, B12 AGND, B13 AGND, B14 AGND, C10 AGND, C11 VEEAM18 (power), C12 VEEAM18 (power), C13 VEEAM18 (power), C14 AGND, D9 VDDIO18 (power), D10 AGND, D11 VEEAM18 (power), D12 VEEAM18 (power), D13 VEEAM18 (power), D14 AGND, E9 VDDIO18 (power), E12 VDDCLK10 (power), F10 VDDLA10 (power), F11 VDDCLK10 (power), G13 AGND, G14 VDDA18A (power), G15 AGND, G16 AGND, H10 VDDLA10 (power), H11 VDDCLK10 (power), H12 VDDCLK18 (power), H13 VDDCLK18 (power), H14 VDDA18A (power), H15 AGND, J10 VDDLB10 (power), J11 VDDCLK10 (power), J12 VDDSYS18 (power), J13 VDDSYS18 (power), J14 VDDA18B (power), K4 VDDR18 (power), K13 AGND, K14 VDDA18B (power), K15 AGND, K16 AGND, L4 VDDR18 (power), L10 VDDLB10 (power), L11 VDDCLK10 (power), M4 VDDR18 (power), M12 VDDCLK10 (power), N4 VDDR18 (power), N9 VQPS, N10 AGND, N11 VEEBM18 (power), N12 VEEBM18 (power), N13 VEEBM18 (power), N14 AGND, P9 VQPS, P10 AGND, P11 VEEBM18 (power), P12 VEEBM18 (power), P13 VEEBM18 (power), P14 AGND, R10 AGND, R11 AGND, R12 AGND, R13 AGND, R14 AGND, T10 AGND, T11 AGND, T14 AGND
part C pins: A15 VSSCLK, A16 VSSCLK, B15 VSSCLK, B16 VSSCLK, C3 VDDT10 (power), C4 VDDT10 (power), C5 VDDT10 (power), C7 VDDT10 (power), C8 VDDT10 (power), C15 VSSCLK, C16 VSSCLK, D3 VDDT10 (power), D15 VSSCLK, E10 VSSCLK, E11 VSSCLK, E13 VSSCLK, E14 VSSCLK, E15 VSSCLK, F3 VDDT10 (power), F7 VDDDIG10 (power), F8 VDDEA10 (power), F9 VDDEA10 (power), F12 VSSCLK, F13 VSSCLK, F14 VSSCLK, F15 VSSCLK, F16 VSSCLK, G3 VDDT10 (power), G6 VDDT10 (power), G8 VDDDIG10 (power), G10 VSSCLK, G11 VSSCLK, G12 VSSCLK, H5 VDDT10 (power), H7 VDDDIG10 (power), J5 VDDT10 (power), J7 VDDDIG10 (power), K3 VDDT10 (power), K6 VDDT10 (power), K8 VDDDIG10 (power), K10 VSSCLK, K11 VSSCLK, K12 VSSCLK, L3 VDDT10 (power), L7 VDDDIG10 (power), L8 VDDEB10 (power), L9 VDDEB10 (power), L12 VSSCLK, L13 VSSCLK, L14 VSSCLK, L15 VSSCLK, L16 VSSCLK, M6 VDDT10 (power), M8 VDDDIG10 (power), M10 VSSCLK, M11 VSSCLK, M13 VSSCLK, M14 VSSCLK, M15 VSSCLK, N3 VDDT10 (power), N7 VDDDIG10 (power), N15 VSSCLK, P3 VDDT10 (power), P4 VDDT10 (power), P5 VDDT10 (power), P7 VDDT10 (power), P8 VDDT10 (power), P15 VSSCLK, P16 VSSCLK, R15 VSSCLK, R16 VSSCLK, T15 VSSCLK, T16 VSSCLK
part D pins: A1 DGND, A2 DGND, A3 DGND, A6 DGND, A9 DGND, B1 DGND, B2 DGND, B3 DGND, B6 DGND, B9 DGND, C6 DGND, C9 DGND, E1 DGND, E2 DGND, E3 DGND, F6 DGND, G7 DGND, G9 DGND, H1 DGND, H2 DGND, H3 DGND, H6 DGND, H8 DGND, H9 DGND, J1 DGND, J2 DGND, J3 DGND, J6 DGND, J8 DGND, J9 DGND, K5 DGND, K7 DGND, K9 DGND, L5 DGND, L6 DGND, M1 DGND, M2 DGND, M3 DGND, M7 DGND, M9 DGND, N5 DGND, N8 DGND, P6 DGND, R1 DGND, R2 DGND, R3 DGND, R6 DGND, R9 DGND, T1 DGND, T2 DGND, T3 DGND, T6 DGND, T9 DGND
part A text: 16-bit DAC 24 GSPS
part B text: +1.0V @ 800 mA; 16-bit DAC 24 GSPS; +1.0V @ 300 mA; +1.8V @ 40 mA; +1.8V @ 70 mA; +1.8V @ 100 mA; +1.8V @ 110 mA; +1.8V @ 10 mA; -1.8V @ 75 mA; Power
part C text: +1.0V @ 3100 mA; 16-bit DAC 24 GSPS; +1.0V @ 1200 mA; +1.0V @ 700 mA; Power
part D text: 16-bit DAC 24 GSPS; Ground

## DAC904E
designator DA?
14-Bit, 165MSPS DAC; Manufacturer: Texas Instruments; ItemType: IC; Package: TSSOP-28; Marking: DAC904E; PartNumber: DAC904E; ItemSubType: DAC; Mounting: SMD
footprint TSSOP28_DAC904 (TSSOP, 28-Leads, Pitch 0.65mm)
pins: 1 D13 (in), 2 D12 (in), 3 D11 (in), 4 D10 (in), 5 D9 (in), 6 D8 (in), 7 D7 (in), 8 D6 (in), 9 D5 (in), 10 D4 (in), 11 D3 (in), 12 D2 (in), 13 D1 (in), 14 D0 (in), 15 PD (in), 16 ~{INT}/EXT (in), 17 REFIN, 18 FSA, 19 BW, 20 AGND (power), 21 IOUT_N (out), 22 IOUT_P (out), 23 BYP, 24 +VA (power), 25 NC (hiz), 26 DGND (power), 27 +VD (power), 28 CLK (in)
text: LSB; 14-bit; Latches; 165 MSPS DAC; MSB; buf; Ref; +1.24V

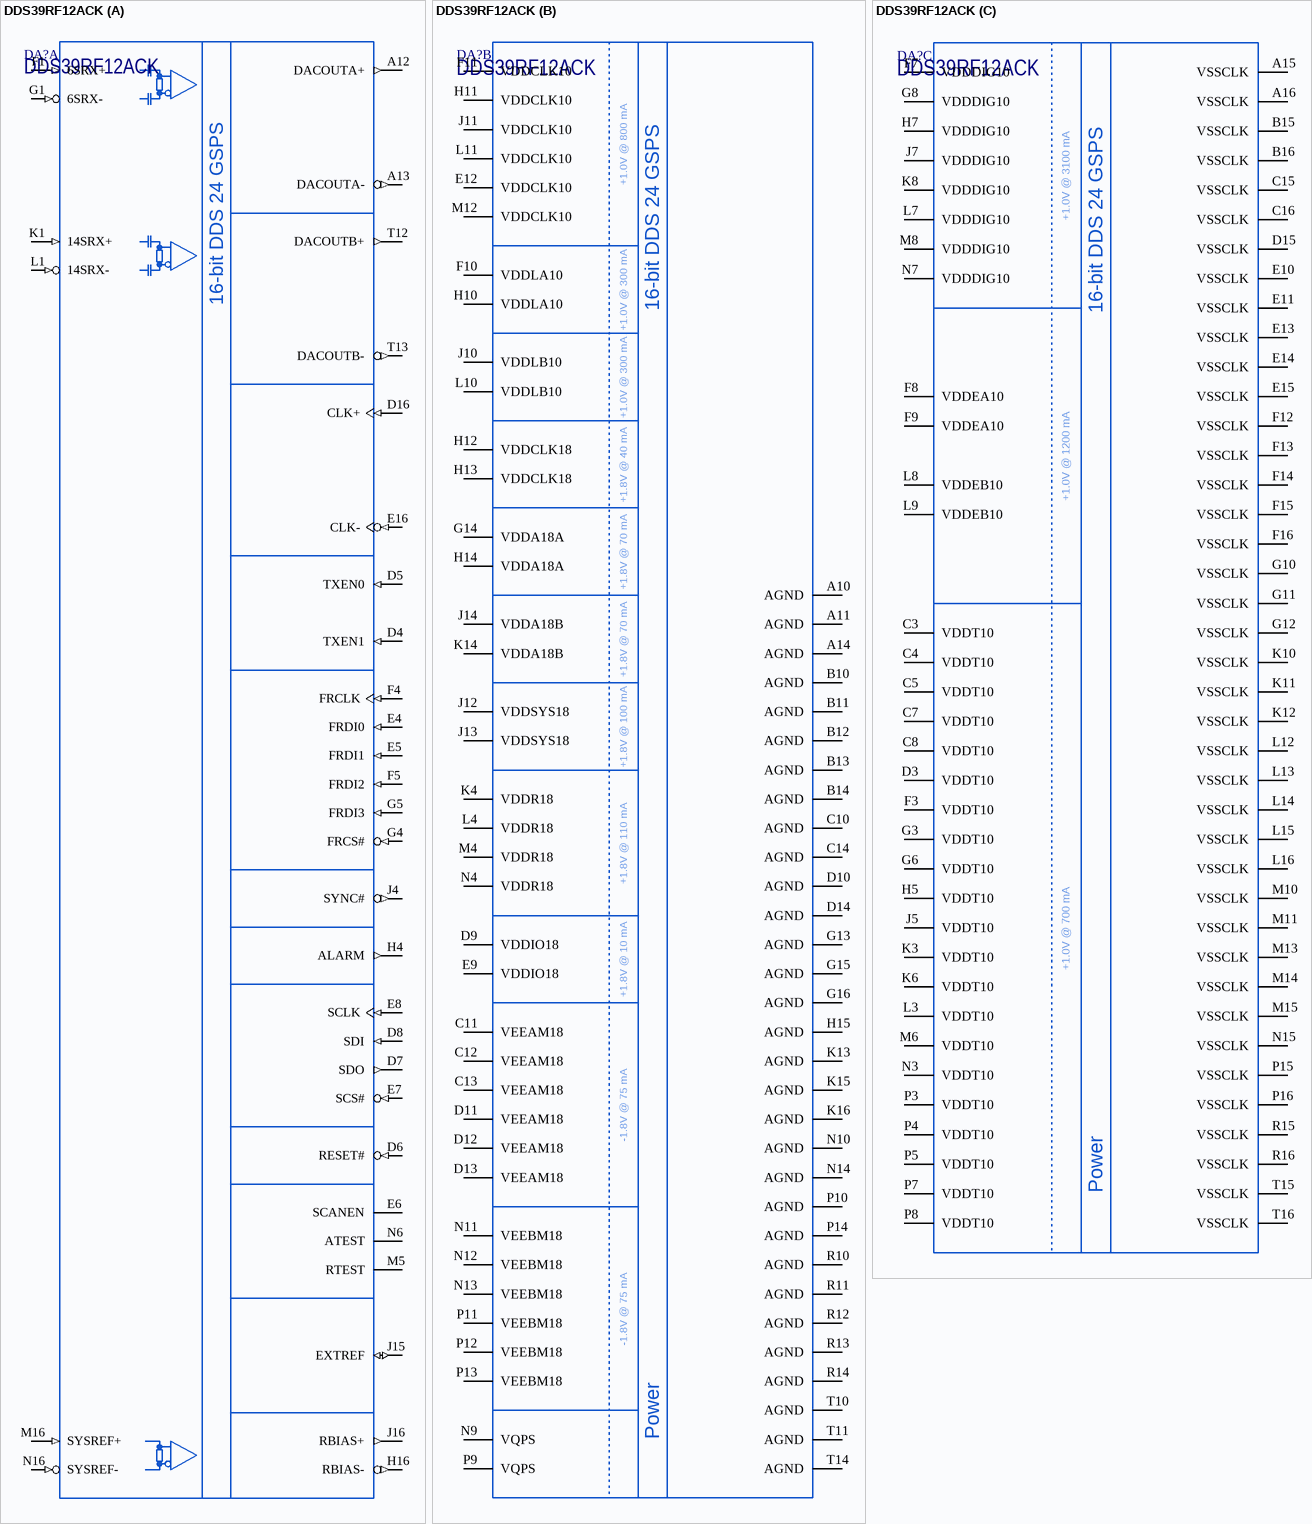
[diagram p6: symbol DDS39RF12ACK]

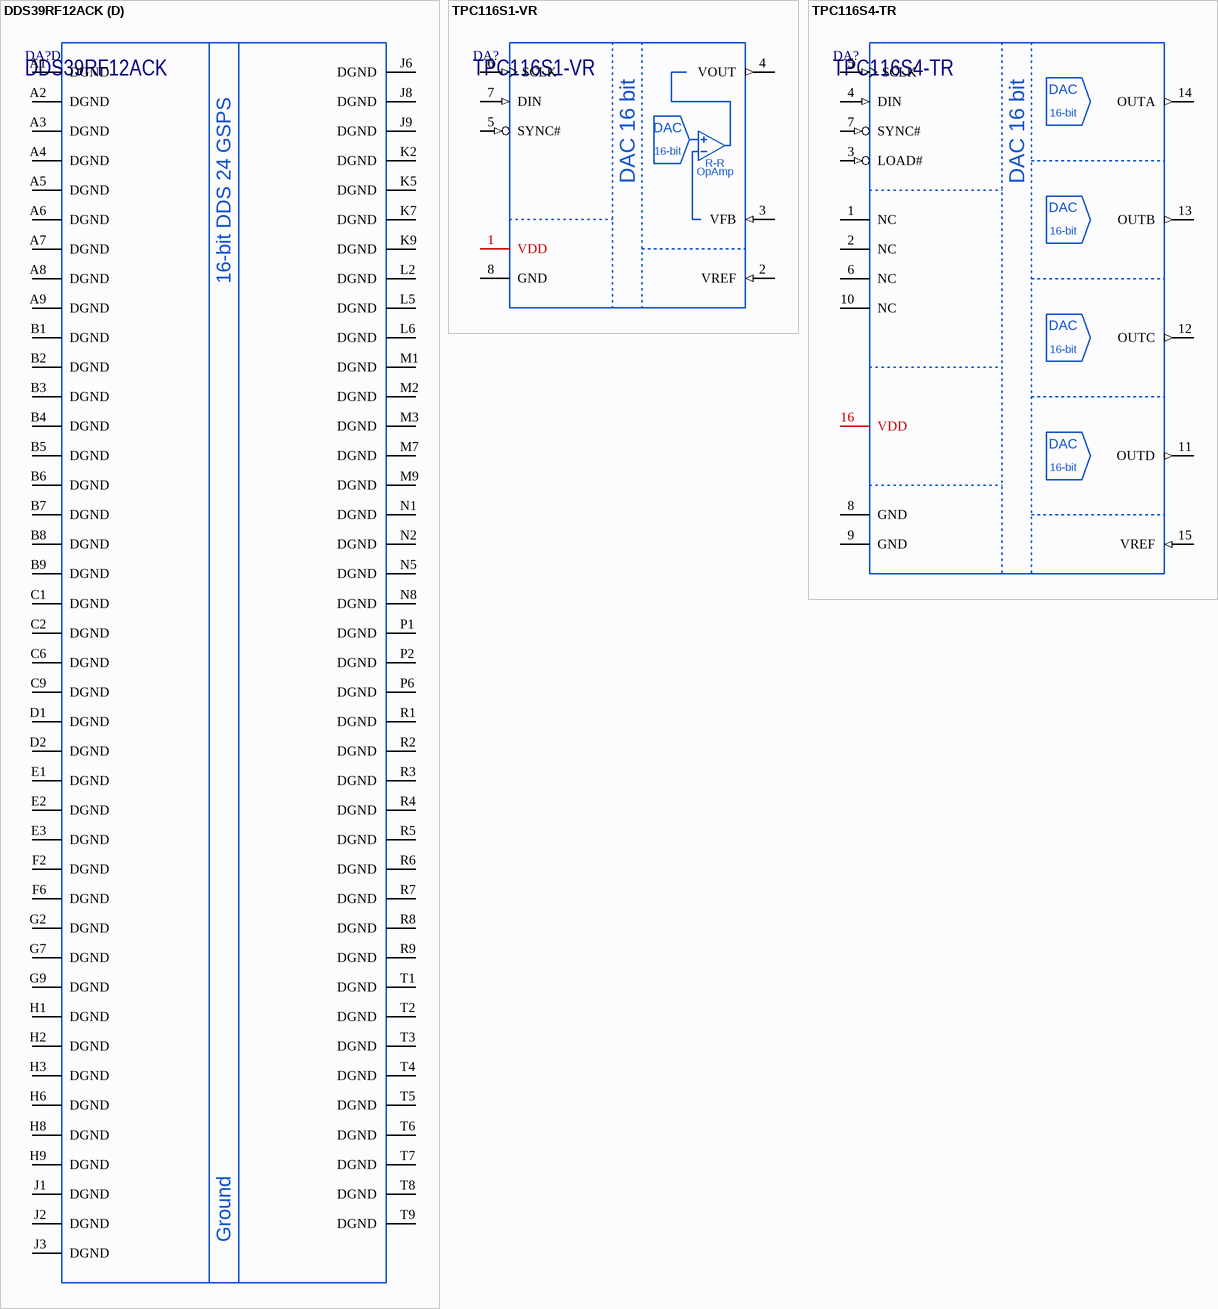
[diagram p7: symbols DDS39RF12ACK to TPC116S4-TR]

## DDS39RF12ACK
designator DA?
12, 24-GSPS, 16-bit, Dual Channel DDS with JESD204B,C Interface; Manufacturer: Texas Instruments; ItemType: IC; Package: FCBGA-256; Marking: DDS39RF12; PartNumber: DDS39RF12ACK; ItemSubType: DDS; Mounting: SMD
footprint FCBGA256_ACK0256A (BGA, 256-Leads, Body 17.00x17.00mmx2.78mm, Pitch 1.00mm)
part A pins: A12 DACOUTA+ (out), A13 DACOUTA- (out), D4 TXEN1 (in), D5 TXEN0 (in), D6 RESET# (in), D7 SDO (out), D8 SDI (in), D16 CLK+ (in), E4 FRDI0 (in), E5 FRDI1 (in), E6 SCANEN, E7 SCS# (in), E8 SCLK (in), E16 CLK- (in), F1 6SRX+ (in), F4 FRCLK (in), F5 FRDI2 (in), G1 6SRX- (in), G4 FRCS# (in), G5 FRDI3 (in), H4 ALARM (out), H16 RBIAS- (out), J4 SYNC# (out), J15 EXTREF (io), J16 RBIAS+ (out), K1 14SRX+ (in), L1 14SRX- (in), M5 RTEST, M16 SYSREF+ (in), N6 ATEST, N16 SYSREF- (in), T12 DACOUTB+ (out), T13 DACOUTB- (out)
part B pins: A10 AGND, A11 AGND, A14 AGND, B10 AGND, B11 AGND, B12 AGND, B13 AGND, B14 AGND, C10 AGND, C11 VEEAM18 (power), C12 VEEAM18 (power), C13 VEEAM18 (power), C14 AGND, D9 VDDIO18 (power), D10 AGND, D11 VEEAM18 (power), D12 VEEAM18 (power), D13 VEEAM18 (power), D14 AGND, E9 VDDIO18 (power), E12 VDDCLK10 (power), F10 VDDLA10 (power), F11 VDDCLK10 (power), G13 AGND, G14 VDDA18A (power), G15 AGND, G16 AGND, H10 VDDLA10 (power), H11 VDDCLK10 (power), H12 VDDCLK18 (power), H13 VDDCLK18 (power), H14 VDDA18A (power), H15 AGND, J10 VDDLB10 (power), J11 VDDCLK10 (power), J12 VDDSYS18 (power), J13 VDDSYS18 (power), J14 VDDA18B (power), K4 VDDR18 (power), K13 AGND, K14 VDDA18B (power), K15 AGND, K16 AGND, L4 VDDR18 (power), L10 VDDLB10 (power), L11 VDDCLK10 (power), M4 VDDR18 (power), M12 VDDCLK10 (power), N4 VDDR18 (power), N9 VQPS, N10 AGND, N11 VEEBM18 (power), N12 VEEBM18 (power), N13 VEEBM18 (power), N14 AGND, P9 VQPS, P10 AGND, P11 VEEBM18 (power), P12 VEEBM18 (power), P13 VEEBM18 (power), P14 AGND, R10 AGND, R11 AGND, R12 AGND, R13 AGND, R14 AGND, T10 AGND, T11 AGND, T14 AGND
part C pins: A15 VSSCLK, A16 VSSCLK, B15 VSSCLK, B16 VSSCLK, C3 VDDT10 (power), C4 VDDT10 (power), C5 VDDT10 (power), C7 VDDT10 (power), C8 VDDT10 (power), C15 VSSCLK, C16 VSSCLK, D3 VDDT10 (power), D15 VSSCLK, E10 VSSCLK, E11 VSSCLK, E13 VSSCLK, E14 VSSCLK, E15 VSSCLK, F3 VDDT10 (power), F7 VDDDIG10 (power), F8 VDDEA10 (power), F9 VDDEA10 (power), F12 VSSCLK, F13 VSSCLK, F14 VSSCLK, F15 VSSCLK, F16 VSSCLK, G3 VDDT10 (power), G6 VDDT10 (power), G8 VDDDIG10 (power), G10 VSSCLK, G11 VSSCLK, G12 VSSCLK, H5 VDDT10 (power), H7 VDDDIG10 (power), J5 VDDT10 (power), J7 VDDDIG10 (power), K3 VDDT10 (power), K6 VDDT10 (power), K8 VDDDIG10 (power), K10 VSSCLK, K11 VSSCLK, K12 VSSCLK, L3 VDDT10 (power), L7 VDDDIG10 (power), L8 VDDEB10 (power), L9 VDDEB10 (power), L12 VSSCLK, L13 VSSCLK, L14 VSSCLK, L15 VSSCLK, L16 VSSCLK, M6 VDDT10 (power), M8 VDDDIG10 (power), M10 VSSCLK, M11 VSSCLK, M13 VSSCLK, M14 VSSCLK, M15 VSSCLK, N3 VDDT10 (power), N7 VDDDIG10 (power), N15 VSSCLK, P3 VDDT10 (power), P4 VDDT10 (power), P5 VDDT10 (power), P7 VDDT10 (power), P8 VDDT10 (power), P15 VSSCLK, P16 VSSCLK, R15 VSSCLK, R16 VSSCLK, T15 VSSCLK, T16 VSSCLK
part D pins: A1 DGND, A2 DGND, A3 DGND, A4 DGND, A5 DGND, A6 DGND, A7 DGND, A8 DGND, A9 DGND, B1 DGND, B2 DGND, B3 DGND, B4 DGND, B5 DGND, B6 DGND, B7 DGND, B8 DGND, B9 DGND, C1 DGND, C2 DGND, C6 DGND, C9 DGND, D1 DGND, D2 DGND, E1 DGND, E2 DGND, E3 DGND, F2 DGND, F6 DGND, G2 DGND, G7 DGND, G9 DGND, H1 DGND, H2 DGND, H3 DGND, H6 DGND, H8 DGND, H9 DGND, J1 DGND, J2 DGND, J3 DGND, J6 DGND, J8 DGND, J9 DGND, K2 DGND, K5 DGND, K7 DGND, K9 DGND, L2 DGND, L5 DGND, L6 DGND, M1 DGND, M2 DGND, M3 DGND, M7 DGND, M9 DGND, N1 DGND, N2 DGND, N5 DGND, N8 DGND, P1 DGND, P2 DGND, P6 DGND, R1 DGND, R2 DGND, R3 DGND, R4 DGND, R5 DGND, R6 DGND, R7 DGND, R8 DGND, R9 DGND, T1 DGND, T2 DGND, T3 DGND, T4 DGND, T5 DGND, T6 DGND, T7 DGND, T8 DGND, T9 DGND
part A text: 16-bit DDS 24 GSPS
part B text: +1.0V @ 800 mA; 16-bit DDS 24 GSPS; +1.0V @ 300 mA; +1.8V @ 40 mA; +1.8V @ 70 mA; +1.8V @ 100 mA; +1.8V @ 110 mA; +1.8V @ 10 mA; -1.8V @ 75 mA; Power
part C text: +1.0V @ 3100 mA; 16-bit DDS 24 GSPS; +1.0V @ 1200 mA; +1.0V @ 700 mA; Power
part D text: 16-bit DDS 24 GSPS; Ground

## TPC116S1-VR
designator DA?
Single, Low Power, High Performance DACs; Manufacturer: 3PEAK; Marking: C116S1; ItemType: IC; ItemSubType: DAC; Package: MSOP-8; PartNumber: TPC116S1-VR; Mounting: SMD
footprint MSOP8_JEDEC_MO187AA (MSOP, 8-Leads, Body 3.00x3.00mm, Pitch 0.65mm)
pins: 1 VDD (power), 2 VREF (in), 3 VFB (in), 4 VOUT (out), 5 SYNC# (in), 6 SCLK (in), 7 DIN (in), 8 GND (power)
text: DAC 16 bit; 16-bit; R-R; OpAmp

## TPC116S4-TR
designator DA?
Quad, Low Power, High Performance DACs; Manufacturer: 3PEAK; Marking: 116S4; ItemType: IC; ItemSubType: DAC; Package: TSSOP-16; PartNumber: TPC116S4-TR; Mounting: SMD
footprint TSSOP16_TPC116S4 (TSSOP, 16-Leads, Body 5.1x4.50mm, Pitch 0.65mm)
pins: 1 NC (hiz), 2 NC (hiz), 3 LOAD# (in), 4 DIN (in), 5 SCLK (in), 6 NC (hiz), 7 SYNC# (in), 8 GND (power), 9 GND (power), 10 NC (hiz), 11 OUTD (out), 12 OUTC (out), 13 OUTB (out), 14 OUTA (out), 15 VREF (in), 16 VDD (power)
text: 16-bit; DAC 16 bit